# Altium footprint library SOIC127P600X163-9N.PcbLib: 1 footprints
Each footprint in its own frame and in the unit in brackets; x right, y up, seen from the top. Pads: shape width x height; smd on the part's side, far side on the other; paste and mask are expansions set on the pad; w line width, h text height; cw(c..) or ccw(c..) is an arc to the next point about the centre after c.
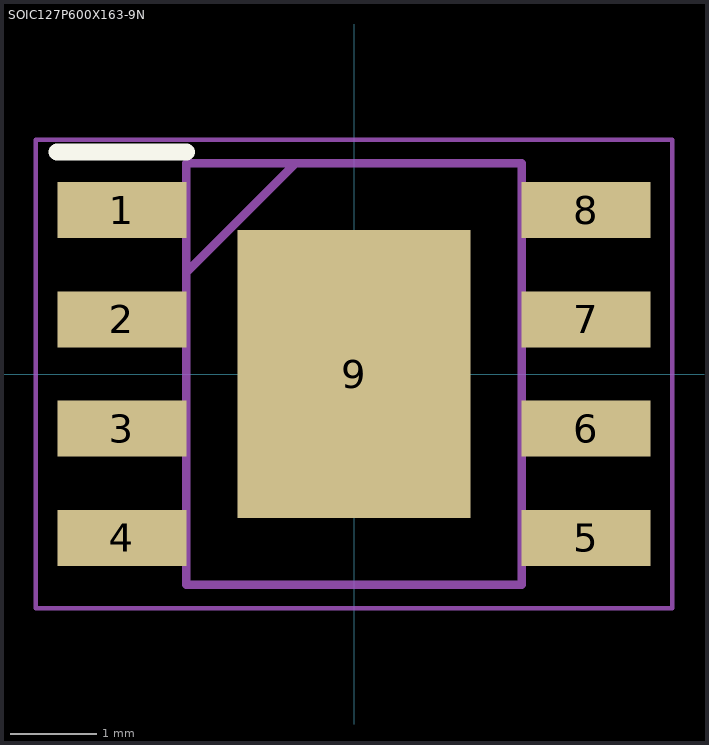
[diagram p0: the footprint, top view; thin cyan lines are the x and y axes]

## SOIC127P600X163-9N [mm]
pads (9):
  rect 1.5x0.65 smd: 1(-2.7,1.905) 2(-2.7,0.635) 3(-2.7,-0.635) 4(-2.7,-1.905) 5(2.7,-1.905) 6(2.7,-0.635) 7(2.7,0.635) 8(2.7,1.905)
  rect 2.71x3.35 smd: 9(0,0)
Top Overlay:
  lines w0.2: -3.45,2.58 -1.95,2.58
Mechanical 15:
  lines w0.1: -1.95,1.18 -0.68,2.45 ; -1.95,-2.45 1.95,-2.45 1.95,2.45 -1.95,2.45 -1.95,-2.45
Mechanical 20:
  lines w0.05: -3.7,-2.725 3.7,-2.725 3.7,2.725 -3.7,2.725 -3.7,-2.725
3D body "AP64501SP-13.stp": height 5.8, standoff -4.65, extent -10,-3.376 10,3.376